# Altium footprint library LCD.PcbLib: 3 footprints
Each footprint in its own frame and in the unit in brackets; x right, y up, seen from the top. Pads: shape width x height; smd on the part's side, far side on the other; paste and mask are expansions set on the pad; w line width, h text height; cw(c..) or ccw(c..) is an arc to the next point about the centre after c.
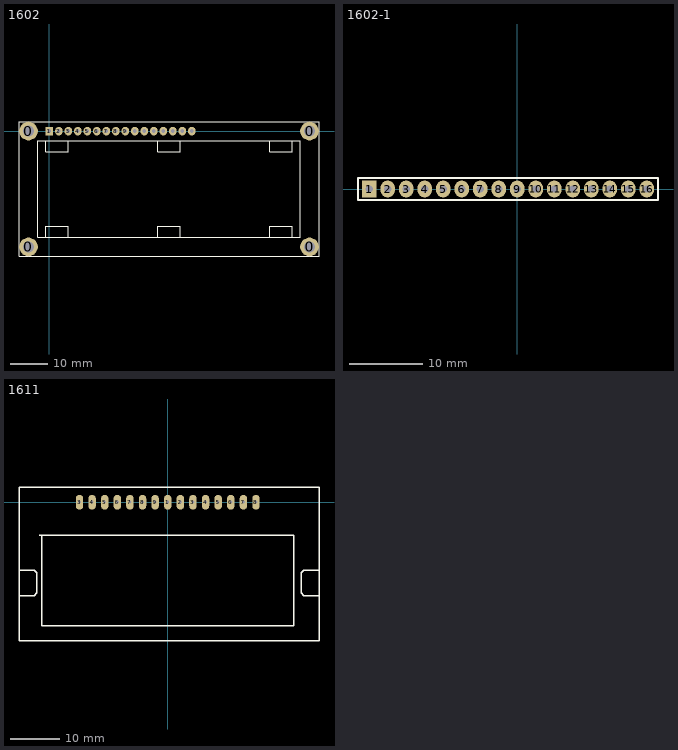
[diagram p0: the footprints below, top view; thin cyan lines are the x and y axes]

## 1602 [mm]
pads (20):
  round 5 hole 3: 0(-5.588,-30.988) 0(-5.588,0) 0(69.596,-30.988) 0(69.596,0)
  rect 2x2.3 hole 1: 1(0,0)
  oval 2x2.3 hole 1: 2(2.54,0) 3(5.08,0) 4(7.62,0) 5(10.16,0) 6(12.7,0) 7(15.24,0) 8(17.78,0) 9(20.32,0) 10(22.86,0) 11(25.4,0) 12(27.94,0) 13(30.48,0) 14(33.02,0) 15(35.56,0) 16(38.1,0)
TopOverlay:
  lines w0.254: -1.016,-28.448 -1.016,-25.4 5.08,-25.4 5.08,-28.448 ; -1.016,-2.54 -1.016,-5.588 5.08,-5.588 5.08,-2.54 ; 28.956,-28.448 28.956,-25.4 35.052,-25.4 35.052,-28.448 ; 28.956,-2.54 28.956,-5.588 35.052,-5.588 35.052,-2.54 ; 58.928,-28.448 58.928,-25.4 65.024,-25.4 65.024,-28.448 ; 58.928,-2.54 58.928,-5.588 65.024,-5.588 65.024,-2.54 ; -8.128,-33.528 72.136,-33.528 72.136,2.54 -8.128,2.54 -8.128,-33.528 ; -3.048,-28.448 67.056,-28.448 67.056,-2.54 -3.048,-2.54 -3.048,-28.448

## 1602-1 [mm]
pads (16):
  rect 2x2.3 hole 1: 1(-20.32,0)
  oval 2x2.3 hole 1: 2(-17.78,0) 3(-15.24,0) 4(-12.7,0) 5(-10.16,0) 6(-7.62,0) 7(-5.08,0) 8(-2.54,0) 9(0,0) 10(2.54,0) 11(5.08,0) 12(7.62,0) 13(10.16,0) 14(12.7,0) 15(15.24,0) 16(17.78,0)
TopOverlay:
  lines w0.254: -21.336,-1.524 18.796,-1.524 19.304,-1.524 19.304,1.524 18.288,1.524 ; -20.828,-1.524 -21.844,-1.524 -21.844,1.524 18.796,1.524

## 1611 [mm]
pads (15):
  oval 1.5x3 hole 0.6: 1(0,0) 2(2.54,0) 3(-17.78,0) 3(5.08,0) 4(-15.24,0) 4(7.62,0) 5(-12.7,0) 5(10.16,0) 6(-10.16,0) 6(12.7,0) 7(-7.62,0) 7(15.24,0) 8(-5.08,0) 8(17.78,0) 9(-2.54,0)
TopOverlay:
  lines w0.254: -29.972,-18.796 -26.924,-18.796 -26.416,-18.288 -26.416,-14.224 -26.924,-13.716 -29.972,-13.716 ; -25.908,-6.604 25.4,-6.604 25.4,-24.892 -25.4,-24.892 -25.4,-6.604 ; 30.48,-18.796 27.432,-18.796 26.924,-18.288 26.924,-14.224 27.432,-13.716 30.48,-13.716 ; -29.972,-27.94 -29.972,3.048 30.48,3.048 30.48,-27.94 -29.972,-27.94